# Altium schematic symbol library CUI Connectors.SchLib: 1 symbol
Pins are listed as number, name and electrical type; pins without a type are passive.

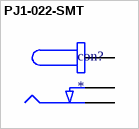
[diagram p0: symbol PJ1-022-SMT]

## PJ1-022-SMT
designator con?
0.65/2.80mm right-angle surface mount power jack - Use PP-012 connector
footprint PJ1-022-SMT (0.65/2.80mm right-angle surface mount power jack)
pins: 1, 2, 3